# Altium footprint library PEAK_PCB_COMPONENTS.PcbLib: 39 footprints (part 2 of 3)
Each footprint in its own frame and in the unit in brackets; x right, y up, seen from the top. Pads: shape width x height; smd on the part's side, far side on the other; paste and mask are expansions set on the pad; w line width, h text height; cw(c..) or ccw(c..) is an arc to the next point about the centre after c.
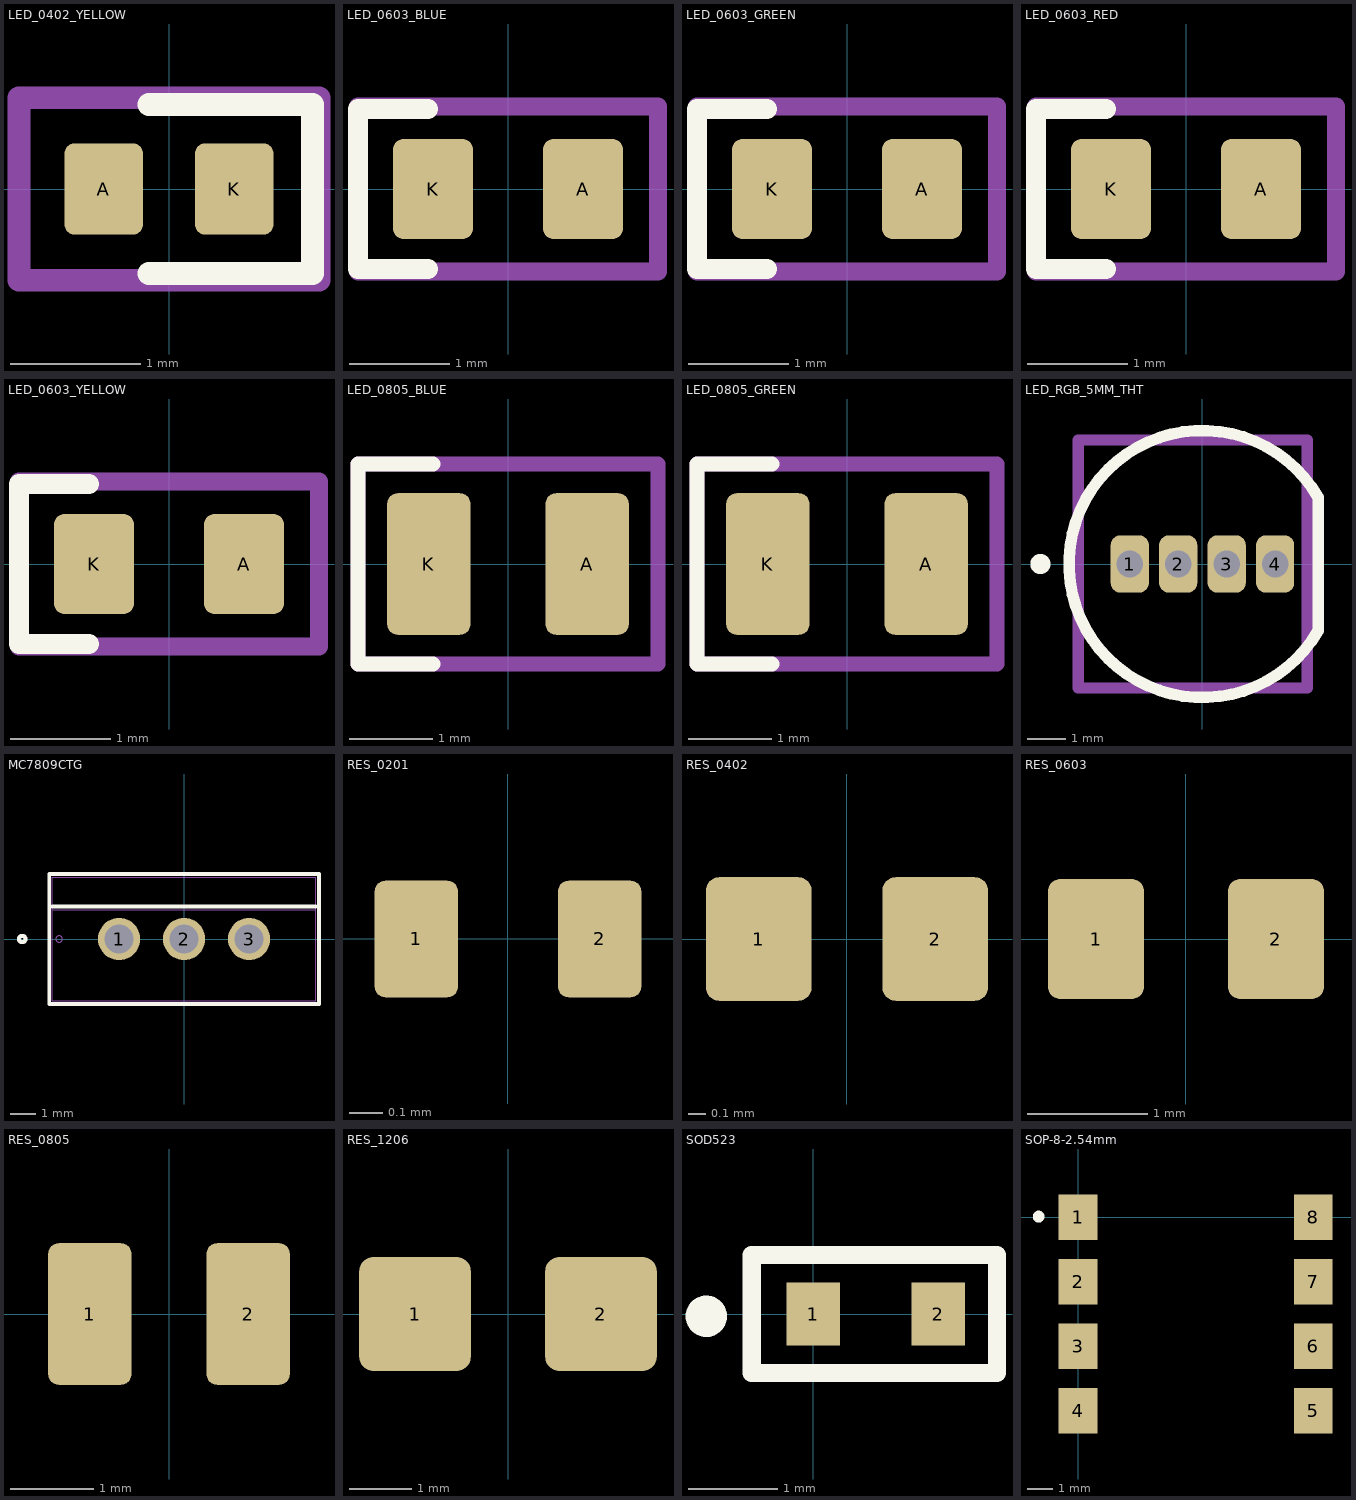
[diagram p1: the footprints below, top view; thin cyan lines are the x and y axes]

## LED_0402_YELLOW [mm]
pads (2):
  rrect25% 0.6x0.7 smd: A(-0.5,0) K(0.5,0)
Top Overlay:
  lines w0.175: -0.153,-0.647 1.1,-0.647 1.1,0.647 -0.153,0.647
Mechanical 13:
  lines w0.175: -1.15,-0.7 1.15,-0.7 1.15,0.7 -1.15,0.7 -1.15,-0.7
  text "'.Designator'" at -5.665,-0.29 h1
  text "+" at -1.883,0.508 h0.5
3D body "LED0402-Yellow.step": height 0.45, standoff 0, extent -0.505,-0.25 0.505,0.25

## LED_0603_BLUE [mm]
pads (2):
  rrect25% 0.8x1 smd: A(0.75,0) K(-0.75,0)
Top Overlay:
  lines w0.2: -0.8,-0.8 -1.5,-0.8 -1.5,0.8 -0.8,0.8
Mechanical 13:
  lines w0.175: -1.5,-0.825 1.5,-0.825 1.5,0.825 -1.5,0.825 -1.5,-0.825
  text "+" at 1.317,0.608 h0.5
  text "'.Designator'" at -5.665,-0.417 h1
3D body "LED_0603_BLUE.step": height 0.6, standoff 0, extent -0.8,-0.4 0.8,0.4

## LED_0603_GREEN [mm]
pads (2):
  rrect25% 0.8x1 smd: A(0.75,0) K(-0.75,0)
Top Overlay:
  lines w0.2: -0.8,-0.8 -1.5,-0.8 -1.5,0.8 -0.8,0.8
Mechanical 13:
  lines w0.175: -1.5,-0.825 1.5,-0.825 1.5,0.825 -1.5,0.825 -1.5,-0.825
  text "'.Designator'" at -5.665,-0.417 h1
  text "+" at 1.317,0.608 h0.5
3D body "LED_0603_GREEN.step": height 0.6, standoff 0, extent -0.8,-0.4 0.8,0.4

## LED_0603_RED [mm]
pads (2):
  rrect25% 0.8x1 smd: A(0.75,0) K(-0.75,0)
Top Overlay:
  lines w0.2: -0.8,-0.8 -1.5,-0.8 -1.5,0.8 -0.8,0.8
Mechanical 13:
  lines w0.175: -1.5,-0.825 1.5,-0.825 1.5,0.825 -1.5,0.825 -1.5,-0.825
  text "'.Designator'" at -5.665,-0.417 h1
  text "+" at 1.317,0.608 h0.5
3D body "LED_0603_RED.step": height 0.6, standoff 0, extent -0.8,-0.4 0.8,0.4

## LED_0603_YELLOW [mm]
pads (2):
  rrect25% 0.8x1 smd: A(0.75,0) K(-0.75,0)
Top Overlay:
  lines w0.2: -0.8,-0.8 -1.5,-0.8 -1.5,0.8 -0.8,0.8
Mechanical 13:
  lines w0.175: -1.5,-0.825 1.5,-0.825 1.5,0.825 -1.5,0.825 -1.5,-0.825
  text "+" at 1.317,0.608 h0.5
  text "'.Designator'" at -5.665,-0.417 h1
3D body "LED_0603_YELLOW.step": height 0.6, standoff 0, extent -0.8,-0.4 0.8,0.4

## LED_0805_BLUE [mm]
pads (2):
  rrect25% 1x1.7 smd: A(0.95,0) K(-0.95,0)
Top Overlay:
  lines w0.175: -0.9,-1.2 -1.8,-1.2 -1.8,1.2 -0.9,1.2
Mechanical 13:
  lines w0.175: -1.8,-1.2 -1.8,1.2 1.8,1.2 1.8,-1.2 -1.8,-1.2
  text "+" at 1.767,1 h1
  text "'.Designator'" at -5.665,-0.417 h1
3D body "LED_0805_BLUE.step": height 1.12, standoff 0.01, extent -1,-0.625 1,0.625

## LED_0805_GREEN [mm]
pads (2):
  rrect25% 1x1.7 smd: A(0.95,0) K(-0.95,0)
Top Overlay:
  lines w0.175: -0.9,-1.2 -1.8,-1.2 -1.8,1.2 -0.9,1.2
Mechanical 13:
  lines w0.175: -1.8,-1.2 -1.8,1.2 1.8,1.2 1.8,-1.2 -1.8,-1.2
  text "+" at 1.767,1 h1
  text "'.Designator'" at -5.665,-0.417 h1
3D body "LED_0805_GREEN.step": height 1.12, standoff 0.01, extent -1,-0.625 1,0.625

## LED_RGB_5MM_THT [mm]
pads (4):
  rrect50% 1x1.5 hole 0.7 mask+0.2: 1(-1.905,0) 2(-0.635,0) 3(0.635,0) 4(1.905,0)
Top Overlay:
  circle w0.3: c-4.25,0 r0.113
  lines w0.3: 3.031,-1.75 cw(c0,0) 3.031,1.75 3.031,-1.75
Mechanical 13:
  lines w0.3: -3.25,-3.25 2.75,-3.25 2.75,3.25 -3.25,3.25 -3.25,-3.25
  text "'.Designator'" at -5.815,-0.9 h1
3D body "LED_RGB_5MM.step": height 12.2, standoff -0.5, extent -2.9,-2.9 2.5,2.9

## MC7809CTG [mil] "IC REG LINEAR 9V 1A TO220AB"
pads (3):
  round 65 / inner round 60 / far side round 65 hole 45 paste-32.5 mask+0: 1(-100,0) 2(0,0) 3(100,0)
Top Overlay:
  circle w6: c-249,0 r5
  lines w6: -202.5,50 202.5,50 ; -207.5,-100 207.5,-100 207.5,100 -207.5,100 -207.5,-100
Mechanical 13:
  circle w0: c-192.5,0 r5
  lines w1: -202.5,45 202.5,45 ; -202.5,-95 202.5,-95 202.5,95 -202.5,95 -202.5,-95
  text "TAB" at -18.75,57.5 h25
3D body "TO-220AB_ONS.step": height 665, standoff -240, extent -202.52,-95 202.52,95

## RES_0201 [mm]
pads (2):
  rrect25% 0.25x0.35 smd mask+0.05: 1(-0.275,0) 2(0.275,0)
3D body "R0201.step": height 0.15, standoff 0, extent -0.3,-0.15 0.3,0.15

## RES_0402 [mm]
pads (2):
  rrect25% 0.6x0.7 smd: 1(-0.5,0) 2(0.5,0)
3D body "R0402.step": height 0.3, standoff 0, extent -0.5,-0.25 0.5,0.25

## RES_0603 [mm]
pads (2):
  rrect25% 0.8x1 smd: 1(-0.75,0) 2(0.75,0)
3D body "R0603.step": height 0.52, standoff 0.01, extent -0.8,-0.43 0.8,0.43

## RES_0805 [mm]
pads (2):
  rrect25% 1x1.7 smd: 1(-0.95,0) 2(0.95,0)
3D body "R0805.step": height 0.47, standoff 0.01, extent -1,-0.63 1,0.63

## RES_1206 [mm]
pads (2):
  rrect25% 1.8x1.84 smd: 1(-1.5,0) 2(1.5,0)
3D body "R1206.step": height 0.57, standoff 0.01, extent -1.6,-0.83 1.6,0.83

## SOD523 [mm]
pads (2):
  rect 0.6x0.7 smd: 1(0,0) 2(1.4,0)
Top Overlay:
  circle w0.254: c-1.194,-0.025 r0.105
  lines w0.203: -0.686,-0.66 2.057,-0.66 2.057,0.66 -0.686,0.66 -0.686,-0.66
3D body "SC-79.stp": height 0.7, standoff 0, extent -0.113,-0.443 1.587,0.457

## SOP-8-2.54mm [mm]
pads (8):
  rect 1.52x1.78 smd mask+0.05: 1(0,0) 2(0,-2.54) 3(0,-5.08) 4(0,-7.62) 5(9.27,-7.62) 6(9.27,-5.08) 7(9.27,-2.54) 8(9.27,0)
Top Overlay:
  circle w0.254: c-1.549,0.025 r0.105
3D body "SOP-8-2.54mm.SLDPRT": height 4.31, standoff 0.01, extent -0.527,-8.741 9.773,1.019